# Altium schematic symbol library Conn_Tag_Connect_TC2030-CTX-NL_eec.SchLib: 1 symbol
Pins are listed as number, name and electrical type; pins without a type are passive.

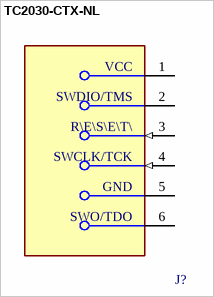
[diagram p0: symbol TC2030-CTX-NL]

## TC2030-CTX-NL
designator J?  (value not drawn)
pins: 1 VCC (power), 2 SWDIO/TMS, 3 ~{RESET} (in), 4 SWCLK/TCK (in), 5 GND (power), 6 SWO/TDO